# Altium footprint library IND_XAL6020-112MEB.PcbLib: 1 footprints
Each footprint in its own frame and in the unit in brackets; x right, y up, seen from the top. Pads: shape width x height; smd on the part's side, far side on the other; paste and mask are expansions set on the pad; w line width, h text height; cw(c..) or ccw(c..) is an arc to the next point about the centre after c.
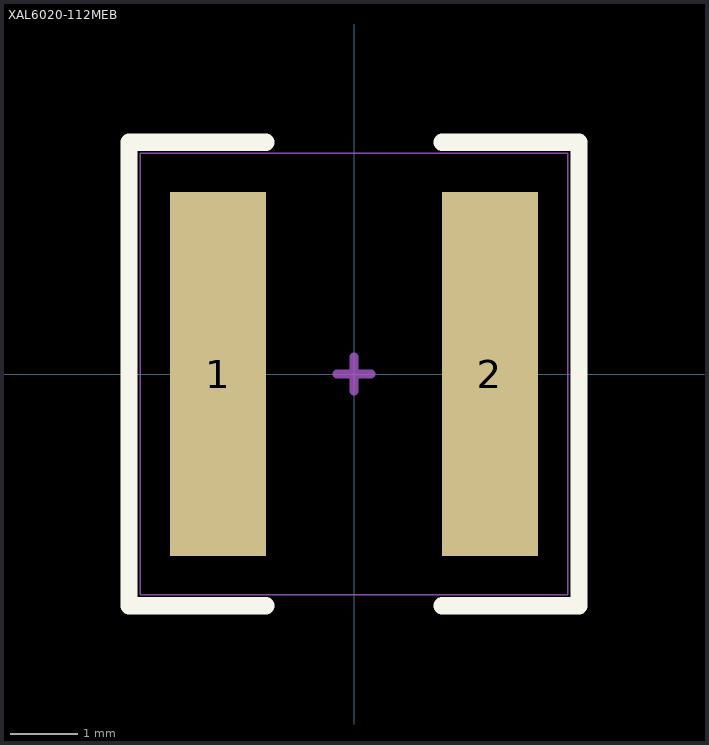
[diagram p0: the footprint, top view; thin cyan lines are the x and y axes]

## XAL6020-112MEB [mil] "Fixed Inductors 1.1uH 20% 12A 13.1mOhms AEC-Q200"
height 82.68
pads (2):
  rect 56x213 smd: 1(-79.5,0) 2(79.5,0)
Top Overlay:
  lines w10: -51.5,-135.5 -131.5,-135.5 -131.5,135.5 -51.5,135.5 ; 51.5,-135.5 131.5,-135.5 131.5,135.5 51.5,135.5
Mechanical 13:
  lines w5: -10,0 10,0 ; 0,-10 0,10
Mechanical 14:
  lines w1: -125,-129 -125,129 125,129 125,-129 -125,-129
3D body "XAL6030-122.STEP": height 82.74, standoff 0.06, extent -129.14,-133.08 129.13,133.07